# Altium footprint library k7_ext.PcbLib: 274 footprints (part 2 of 18)
Each footprint in its own frame and in the unit in brackets; x right, y up, seen from the top. Pads: shape width x height; smd on the part's side, far side on the other; paste and mask are expansions set on the pad; w line width, h text height; cw(c..) or ccw(c..) is an arc to the next point about the centre after c.
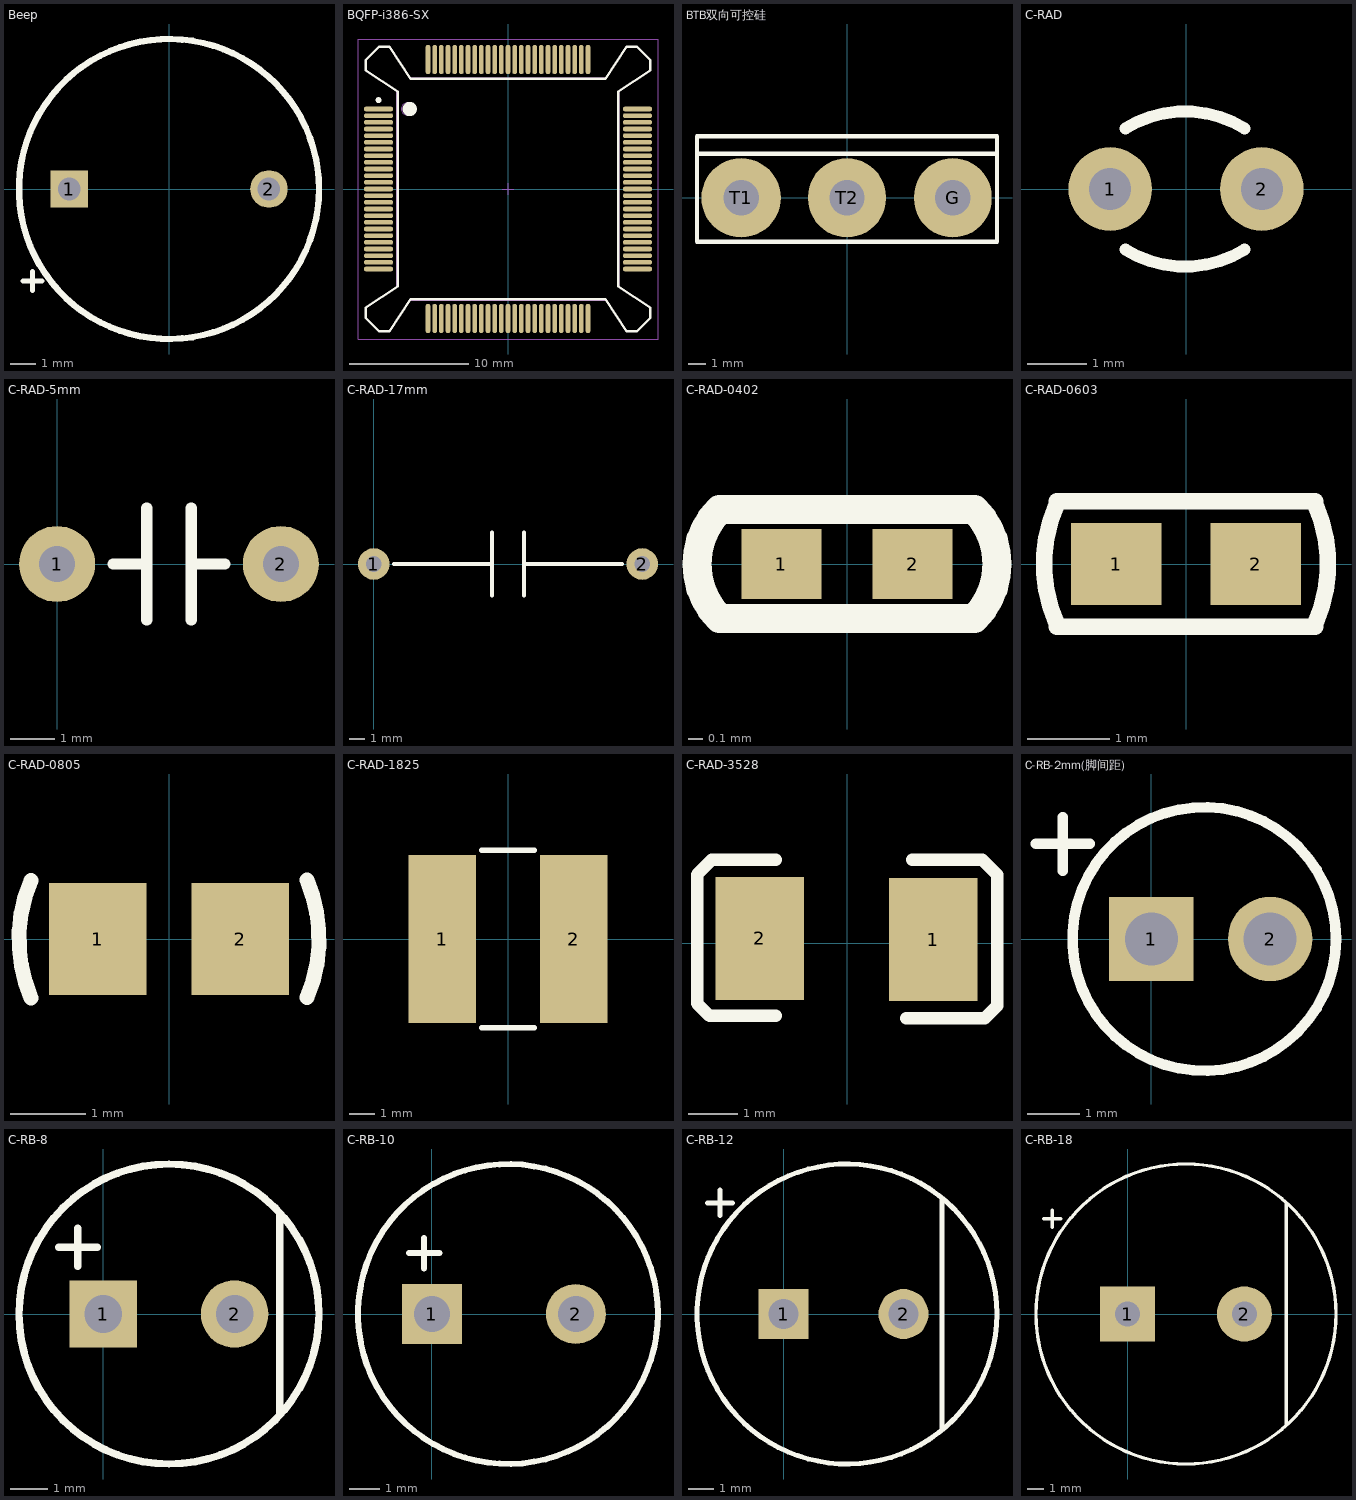
[diagram p1: the footprints below, top view; thin cyan lines are the x and y axes]

## Beep [mm] "蜂鸣器"
height 6
pads (2):
  rect 1.5x1.5 hole 0.9: 1(-4,0)
  round 1.5 hole 0.9: 2(4,0)
Top Overlay:
  circle w0.254: c0,0 r6
  lines w0.2: -5.842,-3.683 -5.08,-3.683 ; -5.461,-4.064 -5.461,-3.302

## BQFP-i386-SX [mm]
height 4
pads (100):
  oval 2.45x0.4 smd: 1(-10.875,6.72) 2(-10.875,6.16) 3(-10.875,5.6) 4(-10.875,5.04) 5(-10.875,4.48) 6(-10.875,3.92) 7(-10.875,3.36) 8(-10.875,2.8) 9(-10.875,2.24) 10(-10.875,1.68) 11(-10.875,1.12) 12(-10.875,0.56) 13(-10.875,0) 14(-10.875,-0.56) 15(-10.875,-1.12) 16(-10.875,-1.68) 17(-10.875,-2.24) 18(-10.875,-2.8) 19(-10.875,-3.36) 20(-10.875,-3.92) 21(-10.875,-4.48) 22(-10.875,-5.04) 23(-10.875,-5.6) 24(-10.875,-6.16) 25(-10.875,-6.72) 51(10.875,-6.72) 52(10.875,-6.16) 53(10.875,-5.6) 54(10.875,-5.04) 55(10.875,-4.48) 56(10.875,-3.92) 57(10.875,-3.36) 58(10.875,-2.8) 59(10.875,-2.24) 60(10.875,-1.68) 61(10.875,-1.12) 62(10.875,-0.56) 63(10.875,0) 64(10.875,0.56) 65(10.875,1.12) 66(10.875,1.68) 67(10.875,2.24) 68(10.875,2.8) 69(10.875,3.36) 70(10.875,3.92) 71(10.875,4.48) 72(10.875,5.04) 73(10.875,5.6) 74(10.875,6.16) 75(10.875,6.72)
  oval 0.4x2.45 smd: 26(-6.72,-10.875) 27(-6.16,-10.875) 28(-5.6,-10.875) 29(-5.04,-10.875) 30(-4.48,-10.875) 31(-3.92,-10.875) 32(-3.36,-10.875) 33(-2.8,-10.875) 34(-2.24,-10.875) 35(-1.68,-10.875) 36(-1.12,-10.875) 37(-0.56,-10.875) 38(0,-10.875) 39(0.56,-10.875) 40(1.12,-10.875) 41(1.68,-10.875) 42(2.24,-10.875) 43(2.8,-10.875) 44(3.36,-10.875) 45(3.92,-10.875) 46(4.48,-10.875) 47(5.04,-10.875) 48(5.6,-10.875) 49(6.16,-10.875) 50(6.72,-10.875) 76(6.72,10.875) 77(6.16,10.875) 78(5.6,10.875) 79(5.04,10.875) 80(4.48,10.875) 81(3.92,10.875) 82(3.36,10.875) 83(2.8,10.875) 84(2.24,10.875) 85(1.68,10.875) 86(1.12,10.875) 87(0.56,10.875) 88(0,10.875) 89(-0.56,10.875) 90(-1.12,10.875) 91(-1.68,10.875) 92(-2.24,10.875) 93(-2.8,10.875) 94(-3.36,10.875) 95(-3.92,10.875) 96(-4.48,10.875) 97(-5.04,10.875) 98(-5.6,10.875) 99(-6.16,10.875) 100(-6.72,10.875)
Top Overlay:
  circle w0.6: c-8.25,6.72 r0.3
  circle w0.25: c-10.875,7.47 r0.125
  lines w0.2: -11.95,-10.84 -10.84,-11.95 -9.95,-11.95 -8.195,-9.25 8.195,-9.25 9.95,-11.95 10.84,-11.95 11.95,-10.84 11.95,-9.95 9.25,-8.195 9.25,8.195 11.95,9.95 11.95,10.84 10.84,11.95 9.95,11.95 8.195,9.25 -8.195,9.25 -9.95,11.95 -10.84,11.95 -11.95,10.84 -11.95,9.95 -9.25,8.195 -9.25,-8.195 -11.95,-9.95 -11.95,-10.84
Mechanical 13:
  circle w0.1: c-8.46,6.72 r0.5
  lines w0.1: -11.95,-10.84 -11.95,-9.95 -9.36,-8.267 -9.36,8.266 -11.95,9.95 -11.95,10.84 -10.84,11.95 -9.95,11.95 -8.266,9.36 8.267,9.36 9.95,11.95 10.84,11.95 11.95,10.84 11.95,9.95 9.36,8.266 9.36,-8.267 11.95,-9.95 11.95,-10.84 10.84,-11.95 9.95,-11.95 8.267,-9.36 -8.266,-9.36 -9.95,-11.95 -10.84,-11.95 -11.95,-10.84
Mechanical 15:
  lines w0.05: -12.6,-12.6 12.6,-12.6 12.6,12.6 -12.6,12.6 -12.6,-12.6
  lines w0.1: -0.5,0 0.5,0 ; 0,-0.5 0,0.5
3D body: height 4.7, standoff 1, extent -11.95,-11.95 11.95,11.95

## BTB双向可控硅 [mm]
pads (3):
  oval 4.4x4.5 hole 2: G(6,0) T2(0,0)
  round 4.5 hole 2: T1(-6,0)
Top Overlay:
  lines w0.254: -8.5,2.5 8.5,2.5 ; -8.5,-2.5 -8.5,3.5 8.5,3.5 8.5,-2.5 -8.5,-2.5

## C-RAD [mm] "瓷片电容"
height 6
pads (2):
  round 1.4 hole 0.7: 1(-1.27,0) 2(1.27,0)
Top Overlay:
  lines w0.2: -1.016,-1.016 ccw(c-0.018,0.606) 0.981,-1.016 ; -1.016,1.016 cw(c-0.018,-0.606) 0.981,1.016

## C-RAD-5mm [mm] "涤纶电容 104j"
pads (2):
  round 1.7 hole 0.8: 1(0,0) 2(5,0)
Top Overlay:
  lines w0.254: 1.25,0 2,0 ; 2,-1.25 2,1.25 ; 3,-1.25 3,1.25 ; 3,0 3.75,0

## C-RAD-17mm [mm] "104J涤纶电容 1KV"
pads (2):
  round 2 hole 1: 1(0,0) 2(17,0)
Top Overlay:
  lines w0.254: 1.27,0 7.5,0 ; 7.5,-2 7.5,2 ; 9.5,-2 9.5,2 ; 9.5,0 15.723,0

## C-RAD-0402 [mil]
pads (2):
  rect 22x19.2 smd: 1(-18,0) 2(18,0)
Top Overlay:
  lines w8: -35,-15 cw(c-20,0) -35,15 35,15 cw(c20,0) 35,-15 -35,-15

## C-RAD-0603 [mm] "贴片电容"
height 0.6
pads (2):
  rect 1.1x1 smd: 1(-0.85,0) 2(0.85,0)
Top Overlay:
  lines w0.2: -1.574,-0.762 1.574,-0.762 ; -1.574,-0.727 cw(c0.048,0) -1.574,0.727 ; -1.574,0.762 1.574,0.762 ; 1.574,-0.727 ccw(c-0.048,0) 1.574,0.727
3D body: height 1, standoff 0, extent -1.143,-0.381 1.143,0.381

## C-RAD-0805 [mm] "贴片电容"
height 1
pads (2):
  rect 1.3x1.5 smd: 1(-0.95,0) 2(0.95,0)
Top Overlay:
  lines w0.2: -1.842,0.779 ccw(c0,0) -1.838,-0.789 ; 1.838,0.789 cw(c0,0) 1.842,-0.779
3D body: height 0.9, standoff 0, extent 0.889,-0.635 1.27,0.635
3D body: height 0.9, standoff 0, extent -1.27,-0.635 -0.889,0.635
3D body: height 0.8, standoff 0, extent -1.016,-0.635 1.016,0.635

## C-RAD-1825 [mm] "贴片电阻"
pads (2):
  rect 2.6x6.5 smd: 1(-2.54,0) 2(2.54,0)
Top Overlay:
  lines w0.2: -1.016,-3.429 1.016,-3.429 ; -1.016,3.429 1.016,3.429
3D body: height 1.2, standoff 0, extent -2.286,-3.175 2.286,3.175

## C-RAD-3528 [mm] "贴片电容"
height 3
pads (2):
  rect 1.8x2.5 smd: 1(1.753,0.075) 2(-1.772,0.1)
Top Overlay:
  lines w0.254: -1.447,-1.475 -2.794,-1.475 -3.048,-1.221 -3.048,1.397 -2.745,1.7 -1.447,1.7 ; 1.203,-1.524 2.794,-1.524 3.048,-1.27 3.048,1.397 2.794,1.651 2.745,1.7 1.328,1.7

## C-RB-2mm(脚间距) [mm] "电解电容-50v-10uf"
height 12
pads (2):
  rect 1.6x1.6 hole 1: 1(0,0)
  round 1.6 hole 1: 2(2.25,0)
Top Overlay:
  circle w0.2: c1,0 r2.5
  lines w0.2: -2.189,1.803 -1.173,1.803 ; -1.681,1.295 -1.681,2.311

## C-RB-8 [mm] "35V 220UF电容"
height 12
pads (2):
  rect 1.8x1.8 hole 1: 1(0,0)
  round 1.8 hole 1: 2(3.5,0)
Top Overlay:
  circle w0.2: c1.75,0 r4
  lines w0.199: 4.699,-2.667 4.699,2.667
  lines w0.2: -1.185,1.778 -0.169,1.778 ; -0.677,1.27 -0.677,2.286

## C-RB-10 [mm] "35V470uF电容，（r=8mm，d=3.5mm）"
height 16
pads (2):
  rect 2x2 hole 1.2: 1(0,0)
  round 2 hole 1.2: 2(4.8,0)
Top Overlay:
  circle w0.2: c2.54,0 r5
  lines w0.2: -0.762,2.032 0.254,2.032 ; -0.254,1.524 -0.254,2.54

## C-RB-12 [mm] "35V470uF电容"
height 20
pads (2):
  rect 2x2 hole 1.2: 1(0,0)
  round 2 hole 1.2: 2(4.8,0)
Top Overlay:
  circle w0.2: c2.54,0 r6
  lines w0.2: -3.048,4.445 -2.032,4.445 ; -2.54,3.937 -2.54,4.953 ; 6.35,-4.572 6.35,4.572

## C-RB-18 [mm] "35V2200uF电容"
height 20
pads (2):
  rect 3.3x3.3 hole 1.5: 1(0,0)
  round 3.3 hole 1.5: 2(7,0)
Top Overlay:
  circle w0.2: c3.5,0 r9
  lines w0.2: -5.037,5.715 -4.021,5.715 ; -4.529,5.207 -4.529,6.223 ; 9.525,-6.604 9.525,6.604